# Altium footprint library PcbLib_Nixie.PcbLib: 17 footprints (part 2 of 2)
Each footprint in its own frame and in the unit in brackets; x right, y up, seen from the top. Pads: shape width x height; smd on the part's side, far side on the other; paste and mask are expansions set on the pad; w line width, h text height; cw(c..) or ccw(c..) is an arc to the next point about the centre after c.
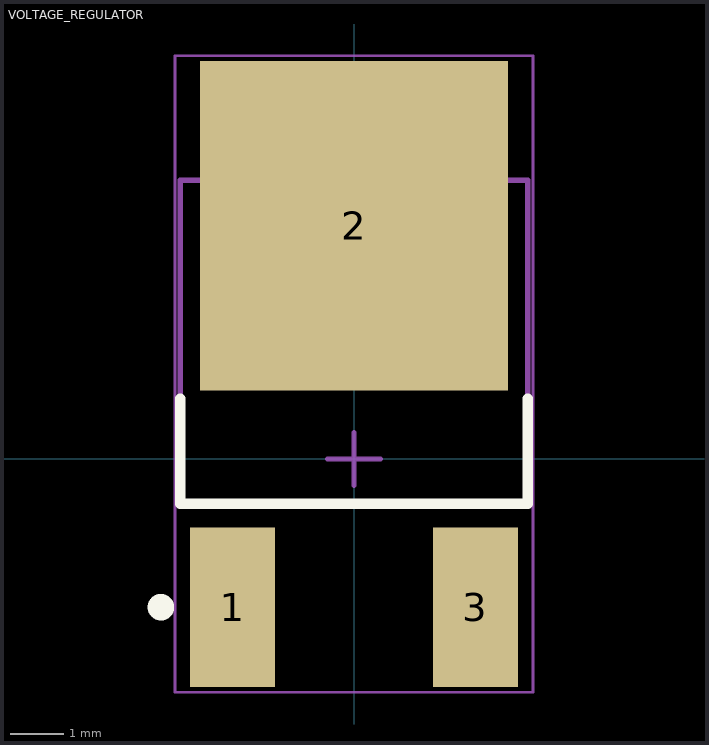
[diagram p1: the footprint, top view; thin cyan lines are the x and y axes]

## VOLTAGE_REGULATOR [mm] "DPAK, 3-Leads, Body 6.095x6.54mm, Pitch 4.57mm"
height 2.38
pads (3):
  rect 1.6x3 smd: 1(-2.285,-2.79) 3(2.285,-2.79)
  rect 5.8x6.2 smd: 2(0,4.39)
Top Overlay:
  circle w0.25: c-3.635,-2.79 r0.125
  lines w0.2: -3.27,1.137 -3.27,-0.845 3.27,-0.845 3.27,1.137
Mechanical 13:
  lines w0.1: -3.27,-0.845 -3.27,5.25 3.27,5.25 3.27,-0.845 -3.27,-0.845
Mechanical 15:
  lines w0.05: -3.37,-4.39 3.37,-4.39 3.37,7.59 -3.37,7.59 -3.37,-4.39
  lines w0.1: -0.5,0 0.5,0 ; 0,-0.5 0,0.5
3D body: height 2.38, standoff 0, extent -3.27,-0.845 3.27,5.25